# Altium schematic symbol library Toogle_Switch_Series_SCH_Library_ARAF.SchLib: 1 symbol
Pins are listed as number, name and electrical type; pins without a type are passive.

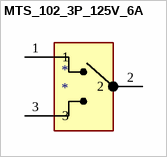
[diagram p0: symbol MTS_102_3P_125V_6A]

## MTS_102_3P_125V_6A
designator *
footprint MTS_102_3P_125V_6A
pins: 1 (power), 2 (power), 3 (power)